# Altium footprint library TE_7-215079-4.PcbLib: 1 footprints
Each footprint in its own frame and in the unit in brackets; x right, y up, seen from the top. Pads: shape width x height; smd on the part's side, far side on the other; paste and mask are expansions set on the pad; w line width, h text height; cw(c..) or ccw(c..) is an arc to the next point about the centre after c.
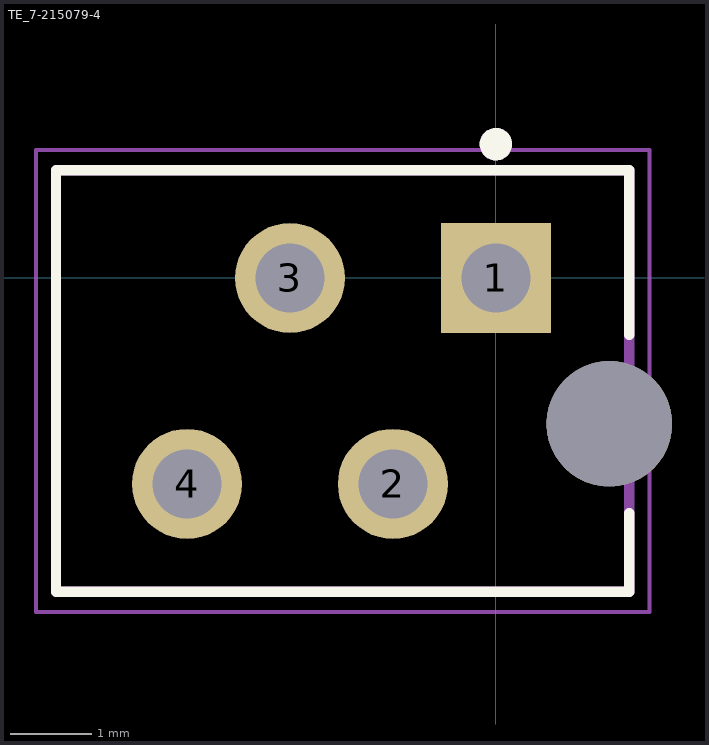
[diagram p0: the footprint, top view; thin cyan lines are the x and y axes]

## TE_7-215079-4 [mm]
pads (5):
  rect 1.358x1.358 hole 0.85: 1(0,0)
  round 1.358 hole 0.85: 2(-1.27,-2.54) 3(-2.54,0) 4(-3.81,-2.54)
  round 1.55 hole 1.55 unplated: ""(1.4,-1.8)
Top Overlay:
  circle w0.2: c0,1.651 r0.1
  lines w0.127: 1.645,-2.9 1.645,-3.87 -5.425,-3.87 -5.425,1.33 1.645,1.33 1.645,-0.7
Mechanical 13:
  circle w0.2: c0,1.651 r0.1
  lines w0.127: -5.425,-3.87 1.645,-3.87 1.645,1.33 -5.425,1.33 -5.425,-3.87
Mechanical 15:
  lines w0.05: -5.675,-4.12 1.895,-4.12 1.895,1.58 -5.675,1.58 -5.675,-4.12